# EAGLE library part EPIC2-HEADER2 (library epic2)
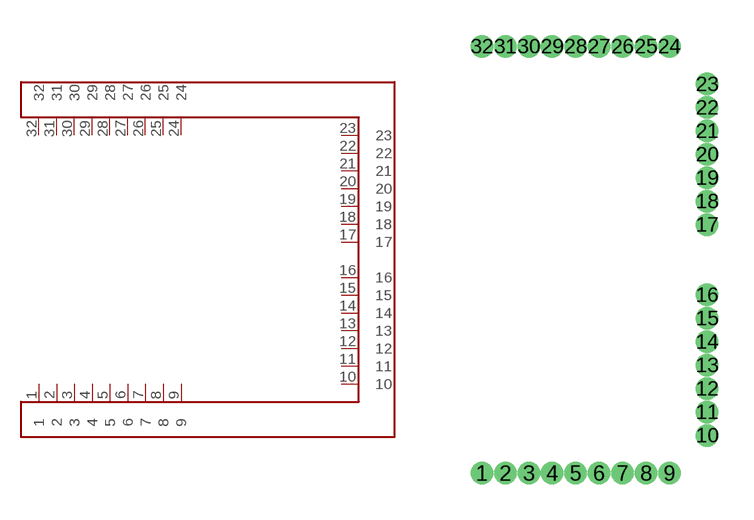
[diagram p1: symbol with the pads of EPIC2-HEADER2; footprint EPIC2-HEADER2]

Designator prefix J

## EPIC2-HEADER2  [EPIC2-HEADER2]
1  1
2  2
3  3
4  4
5  5
6  6
7  7
8  8
9  9
10  10
11  11
12  12
13  13
14  14
15  15
16  16
17  17
18  18
19  19
20  20
21  21
22  22
23  23
24  24
25  25
26  26
27  27
28  28
29  29
30  30
31  31
32  32

## Footprint EPIC2-HEADER2 (pad centres in mm)
drill 0.45 pad 0.8: 1 -9.479,-9.112; 2 -8.479,-9.112; 3 -7.479,-9.112; 4 -6.479,-9.112; 5 -5.479,-9.112; 6 -4.479,-9.112; 7 -3.479,-9.112; 8 -2.479,-9.112; 9 -1.479,-9.112; 10 0.133,-7.5; 11 0.133,-6.5; 12 0.133,-5.5; 13 0.133,-4.5; 14 0.133,-3.5; 15 0.133,-2.5; 16 0.133,-1.5; 17 0.133,1.5; 18 0.133,2.5; 19 0.133,3.5; 20 0.133,4.5; 21 0.133,5.5; 22 0.133,6.5; 23 0.133,7.5; 24 -1.479,9.112; 25 -2.479,9.112; 26 -3.479,9.112; 27 -4.479,9.112; 28 -5.479,9.112; 29 -6.479,9.112; 30 -7.479,9.112; 31 -8.479,9.112; 32 -9.479,9.112